# Altium footprint library AMP Footprints.PcbLib: 903 footprints (part 39 of 58)
Each footprint in its own frame and in the unit in brackets; x right, y up, seen from the top. Pads: shape width x height; smd on the part's side, far side on the other; paste and mask are expansions set on the pad; w line width, h text height; cw(c..) or ccw(c..) is an arc to the next point about the centre after c.
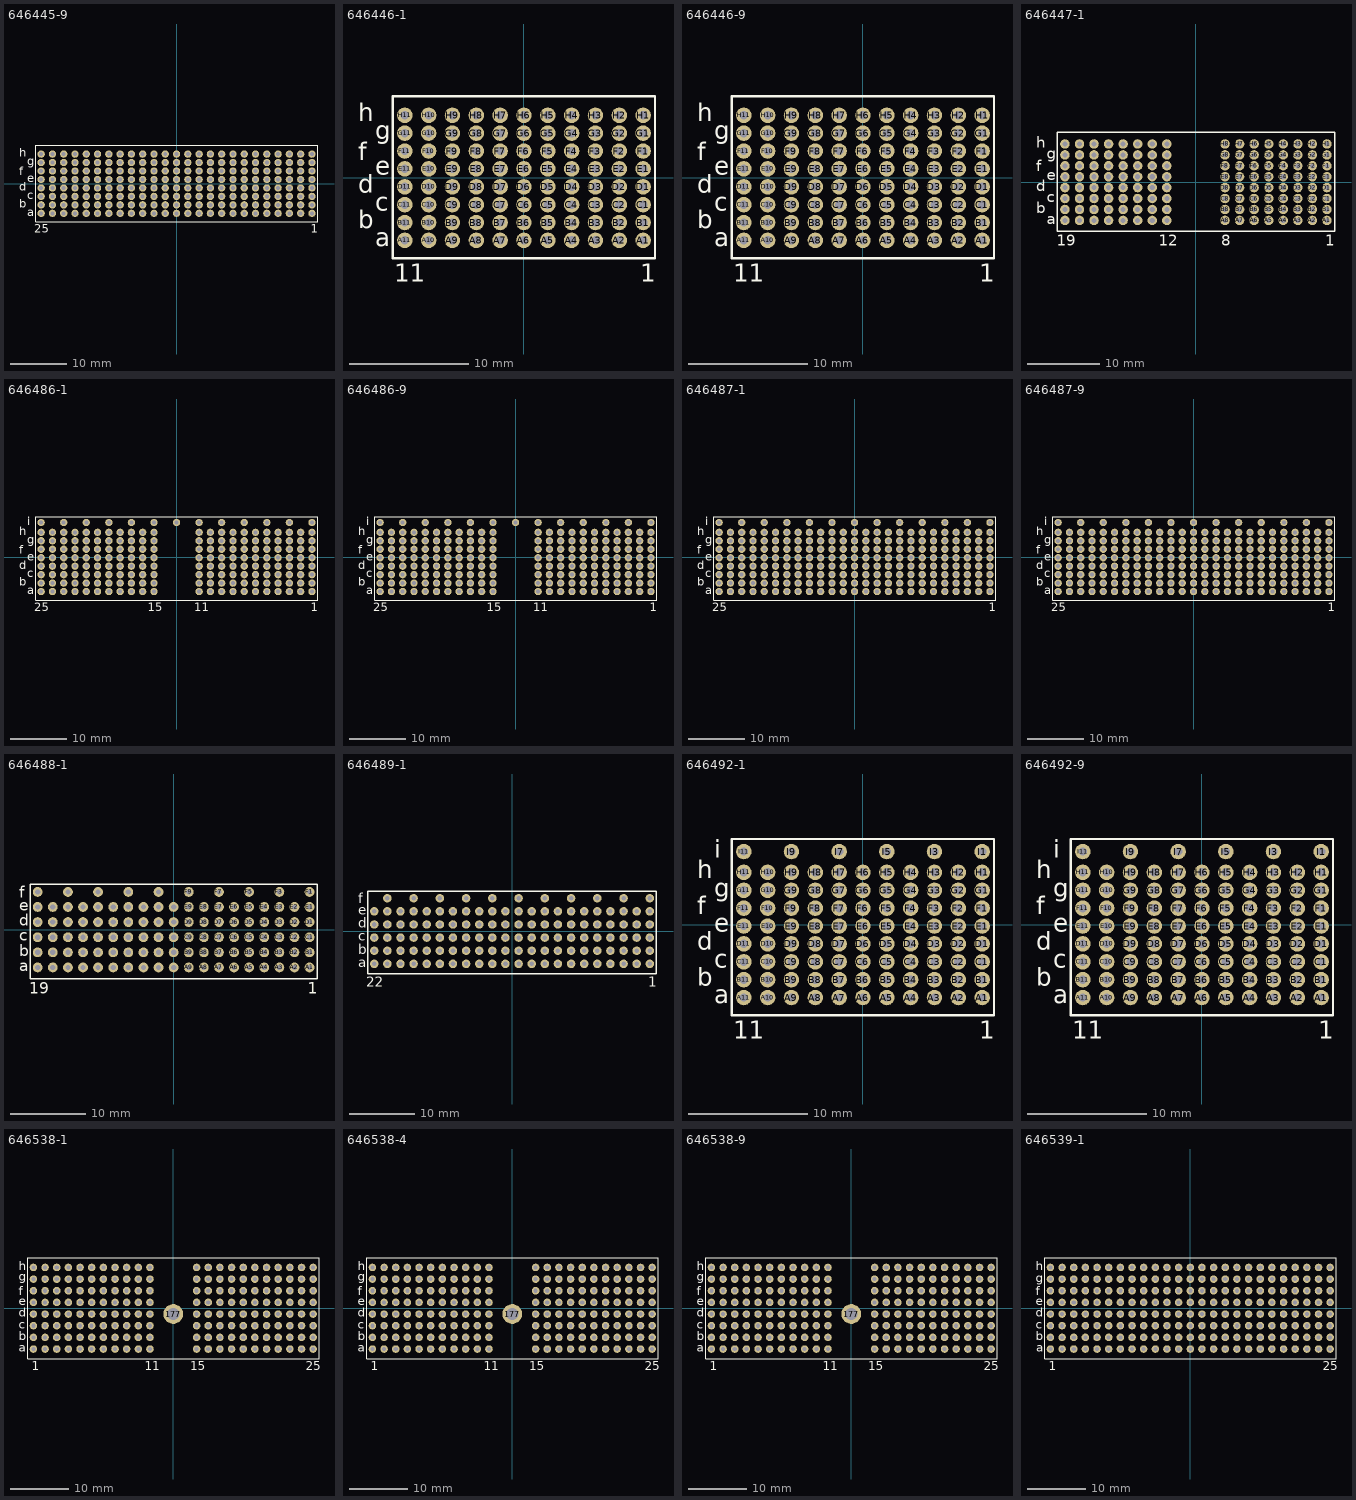
[diagram p38: the footprints below, top view; thin cyan lines are the x and y axes]

## 646445-9 [mm] "Connector; CompactPCI; 200 Position; Right Angle"
height 13.7
pads (200):
  round 1.3 hole 0.7: A1(24,-5.25) A2(22,-5.25) A3(20,-5.25) A4(18,-5.25) A5(16,-5.25) A6(14,-5.25) A7(12,-5.25) A8(10,-5.25) A9(8,-5.25) A10(6,-5.25) A11(4,-5.25) A12(2,-5.25) A13(0,-5.25) A14(-2,-5.25) A15(-4,-5.25) A16(-6,-5.25) A17(-8,-5.25) A18(-10,-5.25) A19(-12,-5.25) A20(-14,-5.25) A21(-16,-5.25) A22(-18,-5.25) A23(-20,-5.25) A24(-22,-5.25) A25(-24,-5.25) B1(24,-3.75) B2(22,-3.75) B3(20,-3.75) B4(18,-3.75) B5(16,-3.75) B6(14,-3.75) B7(12,-3.75) B8(10,-3.75) B9(8,-3.75) B10(6,-3.75) B11(4,-3.75) B12(2,-3.75) B13(0,-3.75) B14(-2,-3.75) B15(-4,-3.75) B16(-6,-3.75) B17(-8,-3.75) B18(-10,-3.75) B19(-12,-3.75) B20(-14,-3.75) B21(-16,-3.75) B22(-18,-3.75) B23(-20,-3.75) B24(-22,-3.75) B25(-24,-3.75) C1(24,-2.25) C2(22,-2.25) C3(20,-2.25) C4(18,-2.25) C5(16,-2.25) C6(14,-2.25) C7(12,-2.25) C8(10,-2.25) C9(8,-2.25) C10(6,-2.25) C11(4,-2.25) C12(2,-2.25) C13(0,-2.25) C14(-2,-2.25) C15(-4,-2.25) C16(-6,-2.25) C17(-8,-2.25) C18(-10,-2.25) C19(-12,-2.25) C20(-14,-2.25) C21(-16,-2.25) C22(-18,-2.25) C23(-20,-2.25) C24(-22,-2.25) C25(-24,-2.25) D1(24,-0.75) D2(22,-0.75) D3(20,-0.75) D4(18,-0.75) D5(16,-0.75) D6(14,-0.75) D7(12,-0.75) D8(10,-0.75) D9(8,-0.75) D10(6,-0.75) D11(4,-0.75) D12(2,-0.75) D13(0,-0.75) D14(-2,-0.75) D15(-4,-0.75) D16(-6,-0.75) D17(-8,-0.75) D18(-10,-0.75) D19(-12,-0.75) D20(-14,-0.75) D21(-16,-0.75) D22(-18,-0.75) D23(-20,-0.75) D24(-22,-0.75) D25(-24,-0.75) E1(24,0.75) E2(22,0.75) E3(20,0.75) E4(18,0.75) E5(16,0.75) E6(14,0.75) E7(12,0.75) E8(10,0.75) E9(8,0.75) E10(6,0.75) E11(4,0.75) E12(2,0.75) E13(0,0.75) E14(-2,0.75) E15(-4,0.75) E16(-6,0.75) E17(-8,0.75) E18(-10,0.75) E19(-12,0.75) E20(-14,0.75) E21(-16,0.75) E22(-18,0.75) E23(-20,0.75) E24(-22,0.75) E25(-24,0.75) F1(24,2.25) F2(22,2.25) F3(20,2.25) F4(18,2.25) F5(16,2.25) F6(14,2.25) F7(12,2.25) F8(10,2.25) F9(8,2.25) F10(6,2.25) F11(4,2.25) F12(2,2.25) F13(0,2.25) F14(-2,2.25) F15(-4,2.25) F16(-6,2.25) F17(-8,2.25) F18(-10,2.25) F19(-12,2.25) F20(-14,2.25) F21(-16,2.25) F22(-18,2.25) F23(-20,2.25) F24(-22,2.25) F25(-24,2.25) G1(24,3.75) G2(22,3.75) G3(20,3.75) G4(18,3.75) G5(16,3.75) G6(14,3.75) G7(12,3.75) G8(10,3.75) G9(8,3.75) G10(6,3.75) G11(4,3.75) G12(2,3.75) G13(0,3.75) G14(-2,3.75) G15(-4,3.75) G16(-6,3.75) G17(-8,3.75) G18(-10,3.75) G19(-12,3.75) G20(-14,3.75) G21(-16,3.75) G22(-18,3.75) G23(-20,3.75) G24(-22,3.75) G25(-24,3.75) H1(24,5.25) H2(22,5.25) H3(20,5.25) H4(18,5.25) H5(16,5.25) H6(14,5.25) H7(12,5.25) H8(10,5.25) H9(8,5.25) H10(6,5.25) H11(4,5.25) H12(2,5.25) H13(0,5.25) H14(-2,5.25) H15(-4,5.25) H16(-6,5.25) H17(-8,5.25) H18(-10,5.25) H19(-12,5.25) H20(-14,5.25) H21(-16,5.25) H22(-18,5.25) H23(-20,5.25) H24(-22,5.25) H25(-24,5.25)
Top Overlay:
  lines w0.2: -25,-6.75 -25,6.85 25,6.85 25,-6.75 -25,-6.75
  text "1" at 23.75,-8.725 h1.5
  text "25" at -25.25,-8.725 h1.5
  text "a" at -26.475,-5.75 h1.5
  text "b" at -27.925,-4.25 h1.5
  text "c" at -26.475,-2.75 h1.5
  text "e" at -26.475,0.25 h1.5
  text "g" at -26.475,3.238 h1.5
  text "d" at -27.925,-1.25 h1.5
  text "f" at -27.925,1.475 h1.5
  text "h" at -27.925,4.75 h1.5

## 646446-1 [mm] "Connector; CompactPCI; 88 Position; Right Angle"
height 14.2
pads (88):
  round 1.3 hole 0.7: A1(10,-5.25) A2(8,-5.25) A3(6,-5.25) A4(4,-5.25) A5(2,-5.25) A6(0,-5.25) A7(-2,-5.25) A8(-4,-5.25) A9(-6,-5.25) A10(-8,-5.25) A11(-10,-5.25) B1(10,-3.75) B2(8,-3.75) B3(6,-3.75) B4(4,-3.75) B5(2,-3.75) B6(0,-3.75) B7(-2,-3.75) B8(-4,-3.75) B9(-6,-3.75) B10(-8,-3.75) B11(-10,-3.75) C1(10,-2.25) C2(8,-2.25) C3(6,-2.25) C4(4,-2.25) C5(2,-2.25) C6(0,-2.25) C7(-2,-2.25) C8(-4,-2.25) C9(-6,-2.25) C10(-8,-2.25) C11(-10,-2.25) D1(10,-0.75) D2(8,-0.75) D3(6,-0.75) D4(4,-0.75) D5(2,-0.75) D6(0,-0.75) D7(-2,-0.75) D8(-4,-0.75) D9(-6,-0.75) D10(-8,-0.75) D11(-10,-0.75) E1(10,0.75) E2(8,0.75) E3(6,0.75) E4(4,0.75) E5(2,0.75) E6(0,0.75) E7(-2,0.75) E8(-4,0.75) E9(-6,0.75) E10(-8,0.75) E11(-10,0.75) F1(10,2.25) F2(8,2.25) F3(6,2.25) F4(4,2.25) F5(2,2.25) F6(0,2.25) F7(-2,2.25) F8(-4,2.25) F9(-6,2.25) F10(-8,2.25) F11(-10,2.25) G1(10,3.75) G2(8,3.75) G3(6,3.75) G4(4,3.75) G5(2,3.75) G6(0,3.75) G7(-2,3.75) G8(-4,3.75) G9(-6,3.75) G10(-8,3.75) G11(-10,3.75) H1(10,5.25) H2(8,5.25) H3(6,5.25) H4(4,5.25) H5(2,5.25) H6(0,5.25) H7(-2,5.25) H8(-4,5.25) H9(-6,5.25) H10(-8,5.25) H11(-10,5.25)
Top Overlay:
  lines w0.2: -11,-6.75 -11,6.85 11,6.85 11,-6.75 -11,-6.75
  text "1" at 9.75,-8.725 h1.5
  text "11" at -10.875,-8.725 h1.5
  text "a" at -12.475,-5.75 h1.5
  text "b" at -13.925,-4.25 h1.5
  text "c" at -12.475,-2.75 h1.5
  text "e" at -12.475,0.25 h1.5
  text "g" at -12.475,3.237 h1.5
  text "d" at -13.925,-1.25 h1.5
  text "f" at -13.925,1.475 h1.5
  text "h" at -13.925,4.75 h1.5

## 646446-9 [mm] "Connector; CompactPCI; 88 Position; Right Angle"
height 14.2
pads (88):
  round 1.3 hole 0.7: A1(10,-5.25) A2(8,-5.25) A3(6,-5.25) A4(4,-5.25) A5(2,-5.25) A6(0,-5.25) A7(-2,-5.25) A8(-4,-5.25) A9(-6,-5.25) A10(-8,-5.25) A11(-10,-5.25) B1(10,-3.75) B2(8,-3.75) B3(6,-3.75) B4(4,-3.75) B5(2,-3.75) B6(0,-3.75) B7(-2,-3.75) B8(-4,-3.75) B9(-6,-3.75) B10(-8,-3.75) B11(-10,-3.75) C1(10,-2.25) C2(8,-2.25) C3(6,-2.25) C4(4,-2.25) C5(2,-2.25) C6(0,-2.25) C7(-2,-2.25) C8(-4,-2.25) C9(-6,-2.25) C10(-8,-2.25) C11(-10,-2.25) D1(10,-0.75) D2(8,-0.75) D3(6,-0.75) D4(4,-0.75) D5(2,-0.75) D6(0,-0.75) D7(-2,-0.75) D8(-4,-0.75) D9(-6,-0.75) D10(-8,-0.75) D11(-10,-0.75) E1(10,0.75) E2(8,0.75) E3(6,0.75) E4(4,0.75) E5(2,0.75) E6(0,0.75) E7(-2,0.75) E8(-4,0.75) E9(-6,0.75) E10(-8,0.75) E11(-10,0.75) F1(10,2.25) F2(8,2.25) F3(6,2.25) F4(4,2.25) F5(2,2.25) F6(0,2.25) F7(-2,2.25) F8(-4,2.25) F9(-6,2.25) F10(-8,2.25) F11(-10,2.25) G1(10,3.75) G2(8,3.75) G3(6,3.75) G4(4,3.75) G5(2,3.75) G6(0,3.75) G7(-2,3.75) G8(-4,3.75) G9(-6,3.75) G10(-8,3.75) G11(-10,3.75) H1(10,5.25) H2(8,5.25) H3(6,5.25) H4(4,5.25) H5(2,5.25) H6(0,5.25) H7(-2,5.25) H8(-4,5.25) H9(-6,5.25) H10(-8,5.25) H11(-10,5.25)
Top Overlay:
  lines w0.2: -11,-6.75 -11,6.85 11,6.85 11,-6.75 -11,-6.75
  text "1" at 9.75,-8.725 h1.5
  text "11" at -10.875,-8.725 h1.5
  text "a" at -12.475,-5.75 h1.5
  text "b" at -13.925,-4.25 h1.5
  text "c" at -12.475,-2.75 h1.5
  text "e" at -12.475,0.25 h1.5
  text "g" at -12.475,3.237 h1.5
  text "d" at -13.925,-1.25 h1.5
  text "f" at -13.925,1.475 h1.5
  text "h" at -13.925,4.75 h1.5

## 646447-1 [mm] "Connector; CompactPCI; 128 Position; Right Angle"
height 14.2
pads (128):
  round 1.3 hole 0.7: A1(18,-5.25) A2(16,-5.25) A3(14,-5.25) A4(12,-5.25) A5(10,-5.25) A6(8,-5.25) A7(6,-5.25) A8(4,-5.25) A12(-4,-5.25) A13(-6,-5.25) A14(-8,-5.25) A15(-10,-5.25) A16(-12,-5.25) A17(-14,-5.25) A18(-16,-5.25) A19(-18,-5.25) B1(18,-3.75) B2(16,-3.75) B3(14,-3.75) B4(12,-3.75) B5(10,-3.75) B6(8,-3.75) B7(6,-3.75) B8(4,-3.75) B12(-4,-3.75) B13(-6,-3.75) B14(-8,-3.75) B15(-10,-3.75) B16(-12,-3.75) B17(-14,-3.75) B18(-16,-3.75) B19(-18,-3.75) C1(18,-2.25) C2(16,-2.25) C3(14,-2.25) C4(12,-2.25) C5(10,-2.25) C6(8,-2.25) C7(6,-2.25) C8(4,-2.25) C12(-4,-2.25) C13(-6,-2.25) C14(-8,-2.25) C15(-10,-2.25) C16(-12,-2.25) C17(-14,-2.25) C18(-16,-2.25) C19(-18,-2.25) D1(18,-0.75) D2(16,-0.75) D3(14,-0.75) D4(12,-0.75) D5(10,-0.75) D6(8,-0.75) D7(6,-0.75) D8(4,-0.75) D12(-4,-0.75) D13(-6,-0.75) D14(-8,-0.75) D15(-10,-0.75) D16(-12,-0.75) D17(-14,-0.75) D18(-16,-0.75) D19(-18,-0.75) E1(18,0.75) E2(16,0.75) E3(14,0.75) E4(12,0.75) E5(10,0.75) E6(8,0.75) E7(6,0.75) E8(4,0.75) E12(-4,0.75) E13(-6,0.75) E14(-8,0.75) E15(-10,0.75) E16(-12,0.75) E17(-14,0.75) E18(-16,0.75) E19(-18,0.75) F1(18,2.25) F2(16,2.25) F3(14,2.25) F4(12,2.25) F5(10,2.25) F6(8,2.25) F7(6,2.25) F8(4,2.25) F12(-4,2.25) F13(-6,2.25) F14(-8,2.25) F15(-10,2.25) F16(-12,2.25) F17(-14,2.25) F18(-16,2.25) F19(-18,2.25) G1(18,3.75) G2(16,3.75) G3(14,3.75) G4(12,3.75) G5(10,3.75) G6(8,3.75) G7(6,3.75) G8(4,3.75) G12(-4,3.75) G13(-6,3.75) G14(-8,3.75) G15(-10,3.75) G16(-12,3.75) G17(-14,3.75) G18(-16,3.75) G19(-18,3.75) H1(18,5.25) H2(16,5.25) H3(14,5.25) H4(12,5.25) H5(10,5.25) H6(8,5.25) H7(6,5.25) H8(4,5.25) H12(-4,5.25) H13(-6,5.25) H14(-8,5.25) H15(-10,5.25) H16(-12,5.25) H17(-14,5.25) H18(-16,5.25) H19(-18,5.25)
Top Overlay:
  lines w0.2: -19.05,-6.75 -19.05,6.85 19.05,6.85 19.05,-6.75 -19.05,-6.75
  text "19" at -19.125,-8.725 h1.5
  text "12" at -5.125,-8.725 h1.5
  text "8" at 3.5,-8.725 h1.5
  text "1" at 17.75,-8.725 h1.5
  text "a" at -20.525,-5.75 h1.5
  text "b" at -21.975,-4.25 h1.5
  text "c" at -20.525,-2.75 h1.5
  text "e" at -20.525,0.25 h1.5
  text "g" at -20.525,3.238 h1.5
  text "d" at -21.975,-1.25 h1.5
  text "f" at -21.975,1.475 h1.5
  text "h" at -21.975,4.75 h1.5

## 646486-1 [mm] "Connector; CompactPCI; 176 Position; Right Angle"
height 14.2
pads (189):
  round 1.3 hole 0.7: A1(24,-6.125) A2(22,-6.125) A3(20,-6.125) A4(18,-6.125) A5(16,-6.125) A6(14,-6.125) A7(12,-6.125) A8(10,-6.125) A9(8,-6.125) A10(6,-6.125) A11(4,-6.125) A15(-4,-6.125) A16(-6,-6.125) A17(-8,-6.125) A18(-10,-6.125) A19(-12,-6.125) A20(-14,-6.125) A21(-16,-6.125) A22(-18,-6.125) A23(-20,-6.125) A24(-22,-6.125) A25(-24,-6.125) B1(24,-4.625) B2(22,-4.625) B3(20,-4.625) B4(18,-4.625) B5(16,-4.625) B6(14,-4.625) B7(12,-4.625) B8(10,-4.625) B9(8,-4.625) B10(6,-4.625) B11(4,-4.625) B15(-4,-4.625) B16(-6,-4.625) B17(-8,-4.625) B18(-10,-4.625) B19(-12,-4.625) B20(-14,-4.625) B21(-16,-4.625) B22(-18,-4.625) B23(-20,-4.625) B24(-22,-4.625) B25(-24,-4.625) C1(24,-3.125) C2(22,-3.125) C3(20,-3.125) C4(18,-3.125) C5(16,-3.125) C6(14,-3.125) C7(12,-3.125) C8(10,-3.125) C9(8,-3.125) C10(6,-3.125) C11(4,-3.125) C15(-4,-3.125) C16(-6,-3.125) C17(-8,-3.125) C18(-10,-3.125) C19(-12,-3.125) C20(-14,-3.125) C21(-16,-3.125) C22(-18,-3.125) C23(-20,-3.125) C24(-22,-3.125) C25(-24,-3.125) D1(24,-1.625) D2(22,-1.625) D3(20,-1.625) D4(18,-1.625) D5(16,-1.625) D6(14,-1.625) D7(12,-1.625) D8(10,-1.625) D9(8,-1.625) D10(6,-1.625) D11(4,-1.625) D15(-4,-1.625) D16(-6,-1.625) D17(-8,-1.625) D18(-10,-1.625) D19(-12,-1.625) D20(-14,-1.625) D21(-16,-1.625) D22(-18,-1.625) D23(-20,-1.625) D24(-22,-1.625) D25(-24,-1.625) E1(24,-0.125) E2(22,-0.125) E3(20,-0.125) E4(18,-0.125) E5(16,-0.125) E6(14,-0.125) E7(12,-0.125) E8(10,-0.125) E9(8,-0.125) E10(6,-0.125) E11(4,-0.125) E15(-4,-0.125) E16(-6,-0.125) E17(-8,-0.125) E18(-10,-0.125) E19(-12,-0.125) E20(-14,-0.125) E21(-16,-0.125) E22(-18,-0.125) E23(-20,-0.125) E24(-22,-0.125) E25(-24,-0.125) F1(24,1.375) F2(22,1.375) F3(20,1.375) F4(18,1.375) F5(16,1.375) F6(14,1.375) F7(12,1.375) F8(10,1.375) F9(8,1.375) F10(6,1.375) F11(4,1.375) F15(-4,1.375) F16(-6,1.375) F17(-8,1.375) F18(-10,1.375) F19(-12,1.375) F20(-14,1.375) F21(-16,1.375) F22(-18,1.375) F23(-20,1.375) F24(-22,1.375) F25(-24,1.375) G1(24,2.875) G2(22,2.875) G3(20,2.875) G4(18,2.875) G5(16,2.875) G6(14,2.875) G7(12,2.875) G8(10,2.875) G9(8,2.875) G10(6,2.875) G11(4,2.875) G15(-4,2.875) G16(-6,2.875) G17(-8,2.875) G18(-10,2.875) G19(-12,2.875) G20(-14,2.875) G21(-16,2.875) G22(-18,2.875) G23(-20,2.875) G24(-22,2.875) G25(-24,2.875) H1(24,4.375) H2(22,4.375) H3(20,4.375) H4(18,4.375) H5(16,4.375) H6(14,4.375) H7(12,4.375) H8(10,4.375) H9(8,4.375) H10(6,4.375) H11(4,4.375) H15(-4,4.375) H16(-6,4.375) H17(-8,4.375) H18(-10,4.375) H19(-12,4.375) H20(-14,4.375) H21(-16,4.375) H22(-18,4.375) H23(-20,4.375) H24(-22,4.375) H25(-24,4.375) I1(24,6.125) I3(20,6.125) I5(16,6.125) I7(12,6.125) I9(8,6.125) I11(4,6.125) I13(0,6.125) I15(-4,6.125) I17(-8,6.125) I19(-12,6.125) I21(-16,6.125) I23(-20,6.125) I25(-24,6.125)
Top Overlay:
  lines w0.2: -25,-7.625 -25,7.105 25,7.105 25,-7.625 -25,-7.625
  text "i" at -26.475,5.625 h1.5
  text "a" at -26.475,-6.625 h1.5
  text "b" at -27.925,-5.125 h1.5
  text "c" at -26.475,-3.625 h1.5
  text "e" at -26.475,-0.625 h1.5
  text "g" at -26.475,2.363 h1.5
  text "d" at -27.925,-2.125 h1.5
  text "f" at -27.925,0.6 h1.5
  text "h" at -27.925,3.875 h1.5
  text "11" at 3.125,-9.6 h1.5
  text "1" at 23.75,-9.6 h1.5
  text "15" at -5.125,-9.6 h1.5
  text "25" at -25.25,-9.6 h1.5

## 646486-9 [mm] "Connector; CompactPCI; 176 Position; Right Angle"
height 14.2
pads (189):
  round 1.3 hole 0.7: A1(24,-6.125) A2(22,-6.125) A3(20,-6.125) A4(18,-6.125) A5(16,-6.125) A6(14,-6.125) A7(12,-6.125) A8(10,-6.125) A9(8,-6.125) A10(6,-6.125) A11(4,-6.125) A15(-4,-6.125) A16(-6,-6.125) A17(-8,-6.125) A18(-10,-6.125) A19(-12,-6.125) A20(-14,-6.125) A21(-16,-6.125) A22(-18,-6.125) A23(-20,-6.125) A24(-22,-6.125) A25(-24,-6.125) B1(24,-4.625) B2(22,-4.625) B3(20,-4.625) B4(18,-4.625) B5(16,-4.625) B6(14,-4.625) B7(12,-4.625) B8(10,-4.625) B9(8,-4.625) B10(6,-4.625) B11(4,-4.625) B15(-4,-4.625) B16(-6,-4.625) B17(-8,-4.625) B18(-10,-4.625) B19(-12,-4.625) B20(-14,-4.625) B21(-16,-4.625) B22(-18,-4.625) B23(-20,-4.625) B24(-22,-4.625) B25(-24,-4.625) C1(24,-3.125) C2(22,-3.125) C3(20,-3.125) C4(18,-3.125) C5(16,-3.125) C6(14,-3.125) C7(12,-3.125) C8(10,-3.125) C9(8,-3.125) C10(6,-3.125) C11(4,-3.125) C15(-4,-3.125) C16(-6,-3.125) C17(-8,-3.125) C18(-10,-3.125) C19(-12,-3.125) C20(-14,-3.125) C21(-16,-3.125) C22(-18,-3.125) C23(-20,-3.125) C24(-22,-3.125) C25(-24,-3.125) D1(24,-1.625) D2(22,-1.625) D3(20,-1.625) D4(18,-1.625) D5(16,-1.625) D6(14,-1.625) D7(12,-1.625) D8(10,-1.625) D9(8,-1.625) D10(6,-1.625) D11(4,-1.625) D15(-4,-1.625) D16(-6,-1.625) D17(-8,-1.625) D18(-10,-1.625) D19(-12,-1.625) D20(-14,-1.625) D21(-16,-1.625) D22(-18,-1.625) D23(-20,-1.625) D24(-22,-1.625) D25(-24,-1.625) E1(24,-0.125) E2(22,-0.125) E3(20,-0.125) E4(18,-0.125) E5(16,-0.125) E6(14,-0.125) E7(12,-0.125) E8(10,-0.125) E9(8,-0.125) E10(6,-0.125) E11(4,-0.125) E15(-4,-0.125) E16(-6,-0.125) E17(-8,-0.125) E18(-10,-0.125) E19(-12,-0.125) E20(-14,-0.125) E21(-16,-0.125) E22(-18,-0.125) E23(-20,-0.125) E24(-22,-0.125) E25(-24,-0.125) F1(24,1.375) F2(22,1.375) F3(20,1.375) F4(18,1.375) F5(16,1.375) F6(14,1.375) F7(12,1.375) F8(10,1.375) F9(8,1.375) F10(6,1.375) F11(4,1.375) F15(-4,1.375) F16(-6,1.375) F17(-8,1.375) F18(-10,1.375) F19(-12,1.375) F20(-14,1.375) F21(-16,1.375) F22(-18,1.375) F23(-20,1.375) F24(-22,1.375) F25(-24,1.375) G1(24,2.875) G2(22,2.875) G3(20,2.875) G4(18,2.875) G5(16,2.875) G6(14,2.875) G7(12,2.875) G8(10,2.875) G9(8,2.875) G10(6,2.875) G11(4,2.875) G15(-4,2.875) G16(-6,2.875) G17(-8,2.875) G18(-10,2.875) G19(-12,2.875) G20(-14,2.875) G21(-16,2.875) G22(-18,2.875) G23(-20,2.875) G24(-22,2.875) G25(-24,2.875) H1(24,4.375) H2(22,4.375) H3(20,4.375) H4(18,4.375) H5(16,4.375) H6(14,4.375) H7(12,4.375) H8(10,4.375) H9(8,4.375) H10(6,4.375) H11(4,4.375) H15(-4,4.375) H16(-6,4.375) H17(-8,4.375) H18(-10,4.375) H19(-12,4.375) H20(-14,4.375) H21(-16,4.375) H22(-18,4.375) H23(-20,4.375) H24(-22,4.375) H25(-24,4.375) I1(24,6.125) I3(20,6.125) I5(16,6.125) I7(12,6.125) I9(8,6.125) I11(4,6.125) I13(0,6.125) I15(-4,6.125) I17(-8,6.125) I19(-12,6.125) I21(-16,6.125) I23(-20,6.125) I25(-24,6.125)
Top Overlay:
  lines w0.2: -25,-7.625 -25,7.105 25,7.105 25,-7.625 -25,-7.625
  text "i" at -26.475,5.625 h1.5
  text "a" at -26.475,-6.625 h1.5
  text "b" at -27.925,-5.125 h1.5
  text "c" at -26.475,-3.625 h1.5
  text "e" at -26.475,-0.625 h1.5
  text "g" at -26.475,2.363 h1.5
  text "d" at -27.925,-2.125 h1.5
  text "f" at -27.925,0.6 h1.5
  text "h" at -27.925,3.875 h1.5
  text "11" at 3.125,-9.6 h1.5
  text "1" at 23.75,-9.6 h1.5
  text "15" at -5.125,-9.6 h1.5
  text "25" at -25.25,-9.6 h1.5

## 646487-1 [mm] "Connector; CompactPCI; 200 Position; Right Angle"
height 13.7
pads (213):
  round 1.3 hole 0.7: A1(24,-6.125) A2(22,-6.125) A3(20,-6.125) A4(18,-6.125) A5(16,-6.125) A6(14,-6.125) A7(12,-6.125) A8(10,-6.125) A9(8,-6.125) A10(6,-6.125) A11(4,-6.125) A12(2,-6.125) A13(0,-6.125) A14(-2,-6.125) A15(-4,-6.125) A16(-6,-6.125) A17(-8,-6.125) A18(-10,-6.125) A19(-12,-6.125) A20(-14,-6.125) A21(-16,-6.125) A22(-18,-6.125) A23(-20,-6.125) A24(-22,-6.125) A25(-24,-6.125) B1(24,-4.625) B2(22,-4.625) B3(20,-4.625) B4(18,-4.625) B5(16,-4.625) B6(14,-4.625) B7(12,-4.625) B8(10,-4.625) B9(8,-4.625) B10(6,-4.625) B11(4,-4.625) B12(2,-4.625) B13(0,-4.625) B14(-2,-4.625) B15(-4,-4.625) B16(-6,-4.625) B17(-8,-4.625) B18(-10,-4.625) B19(-12,-4.625) B20(-14,-4.625) B21(-16,-4.625) B22(-18,-4.625) B23(-20,-4.625) B24(-22,-4.625) B25(-24,-4.625) C1(24,-3.125) C2(22,-3.125) C3(20,-3.125) C4(18,-3.125) C5(16,-3.125) C6(14,-3.125) C7(12,-3.125) C8(10,-3.125) C9(8,-3.125) C10(6,-3.125) C11(4,-3.125) C12(2,-3.125) C13(0,-3.125) C14(-2,-3.125) C15(-4,-3.125) C16(-6,-3.125) C17(-8,-3.125) C18(-10,-3.125) C19(-12,-3.125) C20(-14,-3.125) C21(-16,-3.125) C22(-18,-3.125) C23(-20,-3.125) C24(-22,-3.125) C25(-24,-3.125) D1(24,-1.625) D2(22,-1.625) D3(20,-1.625) D4(18,-1.625) D5(16,-1.625) D6(14,-1.625) D7(12,-1.625) D8(10,-1.625) D9(8,-1.625) D10(6,-1.625) D11(4,-1.625) D12(2,-1.625) D13(0,-1.625) D14(-2,-1.625) D15(-4,-1.625) D16(-6,-1.625) D17(-8,-1.625) D18(-10,-1.625) D19(-12,-1.625) D20(-14,-1.625) D21(-16,-1.625) D22(-18,-1.625) D23(-20,-1.625) D24(-22,-1.625) D25(-24,-1.625) E1(24,-0.125) E2(22,-0.125) E3(20,-0.125) E4(18,-0.125) E5(16,-0.125) E6(14,-0.125) E7(12,-0.125) E8(10,-0.125) E9(8,-0.125) E10(6,-0.125) E11(4,-0.125) E12(2,-0.125) E13(0,-0.125) E14(-2,-0.125) E15(-4,-0.125) E16(-6,-0.125) E17(-8,-0.125) E18(-10,-0.125) E19(-12,-0.125) E20(-14,-0.125) E21(-16,-0.125) E22(-18,-0.125) E23(-20,-0.125) E24(-22,-0.125) E25(-24,-0.125) F1(24,1.375) F2(22,1.375) F3(20,1.375) F4(18,1.375) F5(16,1.375) F6(14,1.375) F7(12,1.375) F8(10,1.375) F9(8,1.375) F10(6,1.375) F11(4,1.375) F12(2,1.375) F13(0,1.375) F14(-2,1.375) F15(-4,1.375) F16(-6,1.375) F17(-8,1.375) F18(-10,1.375) F19(-12,1.375) F20(-14,1.375) F21(-16,1.375) F22(-18,1.375) F23(-20,1.375) F24(-22,1.375) F25(-24,1.375) G1(24,2.875) G2(22,2.875) G3(20,2.875) G4(18,2.875) G5(16,2.875) G6(14,2.875) G7(12,2.875) G8(10,2.875) G9(8,2.875) G10(6,2.875) G11(4,2.875) G12(2,2.875) G13(0,2.875) G14(-2,2.875) G15(-4,2.875) G16(-6,2.875) G17(-8,2.875) G18(-10,2.875) G19(-12,2.875) G20(-14,2.875) G21(-16,2.875) G22(-18,2.875) G23(-20,2.875) G24(-22,2.875) G25(-24,2.875) H1(24,4.375) H2(22,4.375) H3(20,4.375) H4(18,4.375) H5(16,4.375) H6(14,4.375) H7(12,4.375) H8(10,4.375) H9(8,4.375) H10(6,4.375) H11(4,4.375) H12(2,4.375) H13(0,4.375) H14(-2,4.375) H15(-4,4.375) H16(-6,4.375) H17(-8,4.375) H18(-10,4.375) H19(-12,4.375) H20(-14,4.375) H21(-16,4.375) H22(-18,4.375) H23(-20,4.375) H24(-22,4.375) H25(-24,4.375) I1(24,6.125) I3(20,6.125) I5(16,6.125) I7(12,6.125) I9(8,6.125) I11(4,6.125) I13(0,6.125) I15(-4,6.125) I17(-8,6.125) I19(-12,6.125) I21(-16,6.125) I23(-20,6.125) I25(-24,6.125)
Top Overlay:
  lines w0.2: -25,-7.625 25,-7.625 25,7.1 -25,7.1 -25,-7.625
  text "g" at -26.475,2.363 h1.5
  text "i" at -26.475,5.625 h1.5
  text "h" at -27.925,3.875 h1.5
  text "f" at -27.925,0.6 h1.5
  text "d" at -27.925,-2.125 h1.5
  text "e" at -26.475,-0.625 h1.5
  text "c" at -26.475,-3.625 h1.5
  text "b" at -27.925,-5.125 h1.5
  text "a" at -26.475,-6.625 h1.5
  text "25" at -25.25,-9.6 h1.5
  text "1" at 23.75,-9.6 h1.5

## 646487-9 [mm] "Connector; CompactPCI; 200 Position; Right Angle"
height 13.7
pads (213):
  round 1.3 hole 0.7: A1(24,-6.125) A2(22,-6.125) A3(20,-6.125) A4(18,-6.125) A5(16,-6.125) A6(14,-6.125) A7(12,-6.125) A8(10,-6.125) A9(8,-6.125) A10(6,-6.125) A11(4,-6.125) A12(2,-6.125) A13(0,-6.125) A14(-2,-6.125) A15(-4,-6.125) A16(-6,-6.125) A17(-8,-6.125) A18(-10,-6.125) A19(-12,-6.125) A20(-14,-6.125) A21(-16,-6.125) A22(-18,-6.125) A23(-20,-6.125) A24(-22,-6.125) A25(-24,-6.125) B1(24,-4.625) B2(22,-4.625) B3(20,-4.625) B4(18,-4.625) B5(16,-4.625) B6(14,-4.625) B7(12,-4.625) B8(10,-4.625) B9(8,-4.625) B10(6,-4.625) B11(4,-4.625) B12(2,-4.625) B13(0,-4.625) B14(-2,-4.625) B15(-4,-4.625) B16(-6,-4.625) B17(-8,-4.625) B18(-10,-4.625) B19(-12,-4.625) B20(-14,-4.625) B21(-16,-4.625) B22(-18,-4.625) B23(-20,-4.625) B24(-22,-4.625) B25(-24,-4.625) C1(24,-3.125) C2(22,-3.125) C3(20,-3.125) C4(18,-3.125) C5(16,-3.125) C6(14,-3.125) C7(12,-3.125) C8(10,-3.125) C9(8,-3.125) C10(6,-3.125) C11(4,-3.125) C12(2,-3.125) C13(0,-3.125) C14(-2,-3.125) C15(-4,-3.125) C16(-6,-3.125) C17(-8,-3.125) C18(-10,-3.125) C19(-12,-3.125) C20(-14,-3.125) C21(-16,-3.125) C22(-18,-3.125) C23(-20,-3.125) C24(-22,-3.125) C25(-24,-3.125) D1(24,-1.625) D2(22,-1.625) D3(20,-1.625) D4(18,-1.625) D5(16,-1.625) D6(14,-1.625) D7(12,-1.625) D8(10,-1.625) D9(8,-1.625) D10(6,-1.625) D11(4,-1.625) D12(2,-1.625) D13(0,-1.625) D14(-2,-1.625) D15(-4,-1.625) D16(-6,-1.625) D17(-8,-1.625) D18(-10,-1.625) D19(-12,-1.625) D20(-14,-1.625) D21(-16,-1.625) D22(-18,-1.625) D23(-20,-1.625) D24(-22,-1.625) D25(-24,-1.625) E1(24,-0.125) E2(22,-0.125) E3(20,-0.125) E4(18,-0.125) E5(16,-0.125) E6(14,-0.125) E7(12,-0.125) E8(10,-0.125) E9(8,-0.125) E10(6,-0.125) E11(4,-0.125) E12(2,-0.125) E13(0,-0.125) E14(-2,-0.125) E15(-4,-0.125) E16(-6,-0.125) E17(-8,-0.125) E18(-10,-0.125) E19(-12,-0.125) E20(-14,-0.125) E21(-16,-0.125) E22(-18,-0.125) E23(-20,-0.125) E24(-22,-0.125) E25(-24,-0.125) F1(24,1.375) F2(22,1.375) F3(20,1.375) F4(18,1.375) F5(16,1.375) F6(14,1.375) F7(12,1.375) F8(10,1.375) F9(8,1.375) F10(6,1.375) F11(4,1.375) F12(2,1.375) F13(0,1.375) F14(-2,1.375) F15(-4,1.375) F16(-6,1.375) F17(-8,1.375) F18(-10,1.375) F19(-12,1.375) F20(-14,1.375) F21(-16,1.375) F22(-18,1.375) F23(-20,1.375) F24(-22,1.375) F25(-24,1.375) G1(24,2.875) G2(22,2.875) G3(20,2.875) G4(18,2.875) G5(16,2.875) G6(14,2.875) G7(12,2.875) G8(10,2.875) G9(8,2.875) G10(6,2.875) G11(4,2.875) G12(2,2.875) G13(0,2.875) G14(-2,2.875) G15(-4,2.875) G16(-6,2.875) G17(-8,2.875) G18(-10,2.875) G19(-12,2.875) G20(-14,2.875) G21(-16,2.875) G22(-18,2.875) G23(-20,2.875) G24(-22,2.875) G25(-24,2.875) H1(24,4.375) H2(22,4.375) H3(20,4.375) H4(18,4.375) H5(16,4.375) H6(14,4.375) H7(12,4.375) H8(10,4.375) H9(8,4.375) H10(6,4.375) H11(4,4.375) H12(2,4.375) H13(0,4.375) H14(-2,4.375) H15(-4,4.375) H16(-6,4.375) H17(-8,4.375) H18(-10,4.375) H19(-12,4.375) H20(-14,4.375) H21(-16,4.375) H22(-18,4.375) H23(-20,4.375) H24(-22,4.375) H25(-24,4.375) I1(24,6.125) I3(20,6.125) I5(16,6.125) I7(12,6.125) I9(8,6.125) I11(4,6.125) I13(0,6.125) I15(-4,6.125) I17(-8,6.125) I19(-12,6.125) I21(-16,6.125) I23(-20,6.125) I25(-24,6.125)
Top Overlay:
  lines w0.2: -25,-7.625 25,-7.625 25,7.1 -25,7.1 -25,-7.625
  text "g" at -26.475,2.363 h1.5
  text "i" at -26.475,5.625 h1.5
  text "h" at -27.925,3.875 h1.5
  text "f" at -27.925,0.6 h1.5
  text "d" at -27.925,-2.125 h1.5
  text "e" at -26.475,-0.625 h1.5
  text "c" at -26.475,-3.625 h1.5
  text "b" at -27.925,-5.125 h1.5
  text "a" at -26.475,-6.625 h1.5
  text "25" at -25.25,-9.6 h1.5
  text "1" at 23.75,-9.6 h1.5

## 646488-1 [mm] "Connector; CompactPCI; 95 Position; Right Angle"
height 9.12
pads (105):
  round 1.3 hole 0.7: A1(18,-5) A2(16,-5) A3(14,-5) A4(12,-5) A5(10,-5) A6(8,-5) A7(6,-5) A8(4,-5) A9(2,-5) A10(0,-5) A11(-2,-5) A12(-4,-5) A13(-6,-5) A14(-8,-5) A15(-10,-5) A16(-12,-5) A17(-14,-5) A18(-16,-5) A19(-18,-5) B1(18,-3) B2(16,-3) B3(14,-3) B4(12,-3) B5(10,-3) B6(8,-3) B7(6,-3) B8(4,-3) B9(2,-3) B10(0,-3) B11(-2,-3) B12(-4,-3) B13(-6,-3) B14(-8,-3) B15(-10,-3) B16(-12,-3) B17(-14,-3) B18(-16,-3) B19(-18,-3) C1(18,-1) C2(16,-1) C3(14,-1) C4(12,-1) C5(10,-1) C6(8,-1) C7(6,-1) C8(4,-1) C9(2,-1) C10(0,-1) C11(-2,-1) C12(-4,-1) C13(-6,-1) C14(-8,-1) C15(-10,-1) C16(-12,-1) C17(-14,-1) C18(-16,-1) C19(-18,-1) D1(18,1) D2(16,1) D3(14,1) D4(12,1) D5(10,1) D6(8,1) D7(6,1) D8(4,1) D9(2,1) D10(0,1) D11(-2,1) D12(-4,1) D13(-6,1) D14(-8,1) D15(-10,1) D16(-12,1) D17(-14,1) D18(-16,1) D19(-18,1) E1(18,3) E2(16,3) E3(14,3) E4(12,3) E5(10,3) E6(8,3) E7(6,3) E8(4,3) E9(2,3) E10(0,3) E11(-2,3) E12(-4,3) E13(-6,3) E14(-8,3) E15(-10,3) E16(-12,3) E17(-14,3) E18(-16,3) E19(-18,3) F1(18,5) F3(14,5) F5(10,5) F7(6,5) F9(2,5) F11(-2,5) F13(-6,5) F15(-10,5) F17(-14,5) F19(-18,5)
Top Overlay:
  lines w0.2: -19,-6.5 19,-6.5 19,6 -19,6 -19,-6.5
  text "f" at -20.475,4.225 h1.5
  text "e" at -20.475,2.5 h1.5
  text "d" at -20.475,0.5 h1.5
  text "c" at -20.475,-1.5 h1.5
  text "b" at -20.475,-3.5 h1.5
  text "a" at -20.475,-5.5 h1.5
  text "19" at -19.125,-8.475 h1.5
  text "1" at 17.75,-8.475 h1.5

## 646489-1 [mm] "Connector; CompactPCI; 110 Position; Right Angle"
height 9.12
pads (121):
  round 1.3 hole 0.7: A1(21,-5) A2(19,-5) A3(17,-5) A4(15,-5) A5(13,-5) A6(11,-5) A7(9,-5) A8(7,-5) A9(5,-5) A10(3,-5) A11(1,-5) A12(-1,-5) A13(-3,-5) A14(-5,-5) A15(-7,-5) A16(-9,-5) A17(-11,-5) A18(-13,-5) A19(-15,-5) A20(-17,-5) A21(-19,-5) A22(-21,-5) B1(21,-3) B2(19,-3) B3(17,-3) B4(15,-3) B5(13,-3) B6(11,-3) B7(9,-3) B8(7,-3) B9(5,-3) B10(3,-3) B11(1,-3) B12(-1,-3) B13(-3,-3) B14(-5,-3) B15(-7,-3) B16(-9,-3) B17(-11,-3) B18(-13,-3) B19(-15,-3) B20(-17,-3) B21(-19,-3) B22(-21,-3) C1(21,-1) C2(19,-1) C3(17,-1) C4(15,-1) C5(13,-1) C6(11,-1) C7(9,-1) C8(7,-1) C9(5,-1) C10(3,-1) C11(1,-1) C12(-1,-1) C13(-3,-1) C14(-5,-1) C15(-7,-1) C16(-9,-1) C17(-11,-1) C18(-13,-1) C19(-15,-1) C20(-17,-1) C21(-19,-1) C22(-21,-1) D1(21,1) D2(19,1) D3(17,1) D4(15,1) D5(13,1) D6(11,1) D7(9,1) D8(7,1) D9(5,1) D10(3,1) D11(1,1) D12(-1,1) D13(-3,1) D14(-5,1) D15(-7,1) D16(-9,1) D17(-11,1) D18(-13,1) D19(-15,1) D20(-17,1) D21(-19,1) D22(-21,1) E1(21,3) E2(19,3) E3(17,3) E4(15,3) E5(13,3) E6(11,3) E7(9,3) E8(7,3) E9(5,3) E10(3,3) E11(1,3) E12(-1,3) E13(-3,3) E14(-5,3) E15(-7,3) E16(-9,3) E17(-11,3) E18(-13,3) E19(-15,3) E20(-17,3) E21(-19,3) E22(-21,3) F1(21,5) F3(17,5) F5(13,5) F7(9,5) F9(5,5) F11(1,5) F13(-3,5) F15(-7,5) F17(-11,5) F19(-15,5) F21(-19,5)
Top Overlay:
  lines w0.2: -22,-6.5 -22,6.05 22,6.05 22,-6.5 -22,-6.5
  text "f" at -23.475,4.225 h1.5
  text "a" at -23.475,-5.5 h1.5
  text "b" at -23.475,-3.5 h1.5
  text "c" at -23.475,-1.5 h1.5
  text "d" at -23.475,0.5 h1.5
  text "e" at -23.475,2.5 h1.5
  text "22" at -22.25,-8.475 h1.5
  text "1" at 20.75,-8.475 h1.5

## 646492-1 [mm] "Connector; CompactPCI; 88 Position; Right Angle"
height 14.2
pads (94):
  round 1.3 hole 0.7: A1(10,-6.125) A2(8,-6.125) A3(6,-6.125) A4(4,-6.125) A5(2,-6.125) A6(0,-6.125) A7(-2,-6.125) A8(-4,-6.125) A9(-6,-6.125) A10(-8,-6.125) A11(-10,-6.125) B1(10,-4.625) B2(8,-4.625) B3(6,-4.625) B4(4,-4.625) B5(2,-4.625) B6(0,-4.625) B7(-2,-4.625) B8(-4,-4.625) B9(-6,-4.625) B10(-8,-4.625) B11(-10,-4.625) C1(10,-3.125) C2(8,-3.125) C3(6,-3.125) C4(4,-3.125) C5(2,-3.125) C6(0,-3.125) C7(-2,-3.125) C8(-4,-3.125) C9(-6,-3.125) C10(-8,-3.125) C11(-10,-3.125) D1(10,-1.625) D2(8,-1.625) D3(6,-1.625) D4(4,-1.625) D5(2,-1.625) D6(0,-1.625) D7(-2,-1.625) D8(-4,-1.625) D9(-6,-1.625) D10(-8,-1.625) D11(-10,-1.625) E1(10,-0.125) E2(8,-0.125) E3(6,-0.125) E4(4,-0.125) E5(2,-0.125) E6(0,-0.125) E7(-2,-0.125) E8(-4,-0.125) E9(-6,-0.125) E10(-8,-0.125) E11(-10,-0.125) F1(10,1.375) F2(8,1.375) F3(6,1.375) F4(4,1.375) F5(2,1.375) F6(0,1.375) F7(-2,1.375) F8(-4,1.375) F9(-6,1.375) F10(-8,1.375) F11(-10,1.375) G1(10,2.875) G2(8,2.875) G3(6,2.875) G4(4,2.875) G5(2,2.875) G6(0,2.875) G7(-2,2.875) G8(-4,2.875) G9(-6,2.875) G10(-8,2.875) G11(-10,2.875) H1(10,4.375) H2(8,4.375) H3(6,4.375) H4(4,4.375) H5(2,4.375) H6(0,4.375) H7(-2,4.375) H8(-4,4.375) H9(-6,4.375) H10(-8,4.375) H11(-10,4.375) I1(10,6.125) I3(6,6.125) I5(2,6.125) I7(-2,6.125) I9(-6,6.125) I11(-10,6.125)
Top Overlay:
  lines w0.2: -11,-7.625 11,-7.625 11,7.175 -11,7.175 -11,-7.625
  text "i" at -12.475,5.625 h1.5
  text "h" at -13.925,3.875 h1.5
  text "f" at -13.925,0.85 h1.5
  text "d" at -13.925,-2.125 h1.5
  text "g" at -12.475,2.35 h1.5
  text "e" at -12.475,-0.625 h1.5
  text "c" at -12.475,-3.625 h1.5
  text "b" at -13.925,-5.125 h1.5
  text "a" at -12.475,-6.625 h1.5
  text "11" at -10.875,-9.6 h1.5
  text "1" at 9.75,-9.6 h1.5

## 646492-9 [mm] "Connector; CompactPCI; 88 Position; Right Angle"
height 14.2
pads (94):
  round 1.3 hole 0.7: A1(10,-6.125) A2(8,-6.125) A3(6,-6.125) A4(4,-6.125) A5(2,-6.125) A6(0,-6.125) A7(-2,-6.125) A8(-4,-6.125) A9(-6,-6.125) A10(-8,-6.125) A11(-10,-6.125) B1(10,-4.625) B2(8,-4.625) B3(6,-4.625) B4(4,-4.625) B5(2,-4.625) B6(0,-4.625) B7(-2,-4.625) B8(-4,-4.625) B9(-6,-4.625) B10(-8,-4.625) B11(-10,-4.625) C1(10,-3.125) C2(8,-3.125) C3(6,-3.125) C4(4,-3.125) C5(2,-3.125) C6(0,-3.125) C7(-2,-3.125) C8(-4,-3.125) C9(-6,-3.125) C10(-8,-3.125) C11(-10,-3.125) D1(10,-1.625) D2(8,-1.625) D3(6,-1.625) D4(4,-1.625) D5(2,-1.625) D6(0,-1.625) D7(-2,-1.625) D8(-4,-1.625) D9(-6,-1.625) D10(-8,-1.625) D11(-10,-1.625) E1(10,-0.125) E2(8,-0.125) E3(6,-0.125) E4(4,-0.125) E5(2,-0.125) E6(0,-0.125) E7(-2,-0.125) E8(-4,-0.125) E9(-6,-0.125) E10(-8,-0.125) E11(-10,-0.125) F1(10,1.375) F2(8,1.375) F3(6,1.375) F4(4,1.375) F5(2,1.375) F6(0,1.375) F7(-2,1.375) F8(-4,1.375) F9(-6,1.375) F10(-8,1.375) F11(-10,1.375) G1(10,2.875) G2(8,2.875) G3(6,2.875) G4(4,2.875) G5(2,2.875) G6(0,2.875) G7(-2,2.875) G8(-4,2.875) G9(-6,2.875) G10(-8,2.875) G11(-10,2.875) H1(10,4.375) H2(8,4.375) H3(6,4.375) H4(4,4.375) H5(2,4.375) H6(0,4.375) H7(-2,4.375) H8(-4,4.375) H9(-6,4.375) H10(-8,4.375) H11(-10,4.375) I1(10,6.125) I3(6,6.125) I5(2,6.125) I7(-2,6.125) I9(-6,6.125) I11(-10,6.125)
Top Overlay:
  lines w0.2: -11,-7.625 11,-7.625 11,7.175 -11,7.175 -11,-7.625
  text "i" at -12.475,5.625 h1.5
  text "h" at -13.925,3.875 h1.5
  text "f" at -13.925,0.85 h1.5
  text "d" at -13.925,-2.125 h1.5
  text "g" at -12.475,2.35 h1.5
  text "e" at -12.475,-0.625 h1.5
  text "c" at -12.475,-3.625 h1.5
  text "b" at -13.925,-5.125 h1.5
  text "a" at -12.475,-6.625 h1.5
  text "11" at -10.875,-9.6 h1.5
  text "1" at 9.75,-9.6 h1.5

## 646538-1 [mm] "Connector; CompactPCI; 176 Position; Vertical"
height 18.15
pads (177):
  round 3.4 hole 2.1: 177(0,-1)
  round 1.3 hole 0.7: A1(-24,-7) A2(-22,-7) A3(-20,-7) A4(-18,-7) A5(-16,-7) A6(-14,-7) A7(-12,-7) A8(-10,-7) A9(-8,-7) A10(-6,-7) A11(-4,-7) A15(4,-7) A16(6,-7) A17(8,-7) A18(10,-7) A19(12,-7) A20(14,-7) A21(16,-7) A22(18,-7) A23(20,-7) A24(22,-7) A25(24,-7) B1(-24,-5) B2(-22,-5) B3(-20,-5) B4(-18,-5) B5(-16,-5) B6(-14,-5) B7(-12,-5) B8(-10,-5) B9(-8,-5) B10(-6,-5) B11(-4,-5) B15(4,-5) B16(6,-5) B17(8,-5) B18(10,-5) B19(12,-5) B20(14,-5) B21(16,-5) B22(18,-5) B23(20,-5) B24(22,-5) B25(24,-5) C1(-24,-3) C2(-22,-3) C3(-20,-3) C4(-18,-3) C5(-16,-3) C6(-14,-3) C7(-12,-3) C8(-10,-3) C9(-8,-3) C10(-6,-3) C11(-4,-3) C15(4,-3) C16(6,-3) C17(8,-3) C18(10,-3) C19(12,-3) C20(14,-3) C21(16,-3) C22(18,-3) C23(20,-3) C24(22,-3) C25(24,-3) D1(-24,-1) D2(-22,-1) D3(-20,-1) D4(-18,-1) D5(-16,-1) D6(-14,-1) D7(-12,-1) D8(-10,-1) D9(-8,-1) D10(-6,-1) D11(-4,-1) D15(4,-1) D16(6,-1) D17(8,-1) D18(10,-1) D19(12,-1) D20(14,-1) D21(16,-1) D22(18,-1) D23(20,-1) D24(22,-1) D25(24,-1) E1(-24,1) E2(-22,1) E3(-20,1) E4(-18,1) E5(-16,1) E6(-14,1) E7(-12,1) E8(-10,1) E9(-8,1) E10(-6,1) E11(-4,1) E15(4,1) E16(6,1) E17(8,1) E18(10,1) E19(12,1) E20(14,1) E21(16,1) E22(18,1) E23(20,1) E24(22,1) E25(24,1) F1(-24,3) F2(-22,3) F3(-20,3) F4(-18,3) F5(-16,3) F6(-14,3) F7(-12,3) F8(-10,3) F9(-8,3) F10(-6,3) F11(-4,3) F15(4,3) F16(6,3) F17(8,3) F18(10,3) F19(12,3) F20(14,3) F21(16,3) F22(18,3) F23(20,3) F24(22,3) F25(24,3) G1(-24,5) G2(-22,5) G3(-20,5) G4(-18,5) G5(-16,5) G6(-14,5) G7(-12,5) G8(-10,5) G9(-8,5) G10(-6,5) G11(-4,5) G15(4,5) G16(6,5) G17(8,5) G18(10,5) G19(12,5) G20(14,5) G21(16,5) G22(18,5) G23(20,5) G24(22,5) G25(24,5) H1(-24,7) H2(-22,7) H3(-20,7) H4(-18,7) H5(-16,7) H6(-14,7) H7(-12,7) H8(-10,7) H9(-8,7) H10(-6,7) H11(-4,7) H15(4,7) H16(6,7) H17(8,7) H18(10,7) H19(12,7) H20(14,7) H21(16,7) H22(18,7) H23(20,7) H24(22,7) H25(24,7)
Top Overlay:
  lines w0.2: -25,-8.7 25,-8.7 25,8.7 -25,8.7 -25,-8.7
  text "h" at -26.475,6.5 h1.5
  text "f" at -26.475,2.225 h1.5
  text "e" at -26.475,0.5 h1.5
  text "d" at -26.475,-1.5 h1.5
  text "c" at -26.475,-3.5 h1.5
  text "b" at -26.475,-5.5 h1.5
  text "a" at -26.475,-7.5 h1.5
  text "25" at 22.75,-10.675 h1.5
  text "15" at 2.875,-10.675 h1.5
  text "11" at -4.875,-10.675 h1.5
  text "1" at -24.25,-10.675 h1.5
  text "g" at -26.475,4.75 h1.5

## 646538-4 [mm] "Connector; CompactPCI; 176 Position; Vertical"
height 18.15
pads (177):
  round 3.4 hole 2.1: 177(0,-1)
  round 1.3 hole 0.7: A1(-24,-7) A2(-22,-7) A3(-20,-7) A4(-18,-7) A5(-16,-7) A6(-14,-7) A7(-12,-7) A8(-10,-7) A9(-8,-7) A10(-6,-7) A11(-4,-7) A15(4,-7) A16(6,-7) A17(8,-7) A18(10,-7) A19(12,-7) A20(14,-7) A21(16,-7) A22(18,-7) A23(20,-7) A24(22,-7) A25(24,-7) B1(-24,-5) B2(-22,-5) B3(-20,-5) B4(-18,-5) B5(-16,-5) B6(-14,-5) B7(-12,-5) B8(-10,-5) B9(-8,-5) B10(-6,-5) B11(-4,-5) B15(4,-5) B16(6,-5) B17(8,-5) B18(10,-5) B19(12,-5) B20(14,-5) B21(16,-5) B22(18,-5) B23(20,-5) B24(22,-5) B25(24,-5) C1(-24,-3) C2(-22,-3) C3(-20,-3) C4(-18,-3) C5(-16,-3) C6(-14,-3) C7(-12,-3) C8(-10,-3) C9(-8,-3) C10(-6,-3) C11(-4,-3) C15(4,-3) C16(6,-3) C17(8,-3) C18(10,-3) C19(12,-3) C20(14,-3) C21(16,-3) C22(18,-3) C23(20,-3) C24(22,-3) C25(24,-3) D1(-24,-1) D2(-22,-1) D3(-20,-1) D4(-18,-1) D5(-16,-1) D6(-14,-1) D7(-12,-1) D8(-10,-1) D9(-8,-1) D10(-6,-1) D11(-4,-1) D15(4,-1) D16(6,-1) D17(8,-1) D18(10,-1) D19(12,-1) D20(14,-1) D21(16,-1) D22(18,-1) D23(20,-1) D24(22,-1) D25(24,-1) E1(-24,1) E2(-22,1) E3(-20,1) E4(-18,1) E5(-16,1) E6(-14,1) E7(-12,1) E8(-10,1) E9(-8,1) E10(-6,1) E11(-4,1) E15(4,1) E16(6,1) E17(8,1) E18(10,1) E19(12,1) E20(14,1) E21(16,1) E22(18,1) E23(20,1) E24(22,1) E25(24,1) F1(-24,3) F2(-22,3) F3(-20,3) F4(-18,3) F5(-16,3) F6(-14,3) F7(-12,3) F8(-10,3) F9(-8,3) F10(-6,3) F11(-4,3) F15(4,3) F16(6,3) F17(8,3) F18(10,3) F19(12,3) F20(14,3) F21(16,3) F22(18,3) F23(20,3) F24(22,3) F25(24,3) G1(-24,5) G2(-22,5) G3(-20,5) G4(-18,5) G5(-16,5) G6(-14,5) G7(-12,5) G8(-10,5) G9(-8,5) G10(-6,5) G11(-4,5) G15(4,5) G16(6,5) G17(8,5) G18(10,5) G19(12,5) G20(14,5) G21(16,5) G22(18,5) G23(20,5) G24(22,5) G25(24,5) H1(-24,7) H2(-22,7) H3(-20,7) H4(-18,7) H5(-16,7) H6(-14,7) H7(-12,7) H8(-10,7) H9(-8,7) H10(-6,7) H11(-4,7) H15(4,7) H16(6,7) H17(8,7) H18(10,7) H19(12,7) H20(14,7) H21(16,7) H22(18,7) H23(20,7) H24(22,7) H25(24,7)
Top Overlay:
  lines w0.2: -25,-8.7 25,-8.7 25,8.7 -25,8.7 -25,-8.7
  text "h" at -26.475,6.5 h1.5
  text "f" at -26.475,2.225 h1.5
  text "e" at -26.475,0.5 h1.5
  text "d" at -26.475,-1.5 h1.5
  text "c" at -26.475,-3.5 h1.5
  text "b" at -26.475,-5.5 h1.5
  text "a" at -26.475,-7.5 h1.5
  text "25" at 22.75,-10.675 h1.5
  text "15" at 2.875,-10.675 h1.5
  text "11" at -4.875,-10.675 h1.5
  text "1" at -24.25,-10.675 h1.5
  text "g" at -26.475,4.75 h1.5

## 646538-9 [mm] "Connector; CompactPCI; 176 Position; Vertical"
height 18.15
pads (177):
  round 3.4 hole 2.1: 177(0,-1)
  round 1.3 hole 0.7: A1(-24,-7) A2(-22,-7) A3(-20,-7) A4(-18,-7) A5(-16,-7) A6(-14,-7) A7(-12,-7) A8(-10,-7) A9(-8,-7) A10(-6,-7) A11(-4,-7) A15(4,-7) A16(6,-7) A17(8,-7) A18(10,-7) A19(12,-7) A20(14,-7) A21(16,-7) A22(18,-7) A23(20,-7) A24(22,-7) A25(24,-7) B1(-24,-5) B2(-22,-5) B3(-20,-5) B4(-18,-5) B5(-16,-5) B6(-14,-5) B7(-12,-5) B8(-10,-5) B9(-8,-5) B10(-6,-5) B11(-4,-5) B15(4,-5) B16(6,-5) B17(8,-5) B18(10,-5) B19(12,-5) B20(14,-5) B21(16,-5) B22(18,-5) B23(20,-5) B24(22,-5) B25(24,-5) C1(-24,-3) C2(-22,-3) C3(-20,-3) C4(-18,-3) C5(-16,-3) C6(-14,-3) C7(-12,-3) C8(-10,-3) C9(-8,-3) C10(-6,-3) C11(-4,-3) C15(4,-3) C16(6,-3) C17(8,-3) C18(10,-3) C19(12,-3) C20(14,-3) C21(16,-3) C22(18,-3) C23(20,-3) C24(22,-3) C25(24,-3) D1(-24,-1) D2(-22,-1) D3(-20,-1) D4(-18,-1) D5(-16,-1) D6(-14,-1) D7(-12,-1) D8(-10,-1) D9(-8,-1) D10(-6,-1) D11(-4,-1) D15(4,-1) D16(6,-1) D17(8,-1) D18(10,-1) D19(12,-1) D20(14,-1) D21(16,-1) D22(18,-1) D23(20,-1) D24(22,-1) D25(24,-1) E1(-24,1) E2(-22,1) E3(-20,1) E4(-18,1) E5(-16,1) E6(-14,1) E7(-12,1) E8(-10,1) E9(-8,1) E10(-6,1) E11(-4,1) E15(4,1) E16(6,1) E17(8,1) E18(10,1) E19(12,1) E20(14,1) E21(16,1) E22(18,1) E23(20,1) E24(22,1) E25(24,1) F1(-24,3) F2(-22,3) F3(-20,3) F4(-18,3) F5(-16,3) F6(-14,3) F7(-12,3) F8(-10,3) F9(-8,3) F10(-6,3) F11(-4,3) F15(4,3) F16(6,3) F17(8,3) F18(10,3) F19(12,3) F20(14,3) F21(16,3) F22(18,3) F23(20,3) F24(22,3) F25(24,3) G1(-24,5) G2(-22,5) G3(-20,5) G4(-18,5) G5(-16,5) G6(-14,5) G7(-12,5) G8(-10,5) G9(-8,5) G10(-6,5) G11(-4,5) G15(4,5) G16(6,5) G17(8,5) G18(10,5) G19(12,5) G20(14,5) G21(16,5) G22(18,5) G23(20,5) G24(22,5) G25(24,5) H1(-24,7) H2(-22,7) H3(-20,7) H4(-18,7) H5(-16,7) H6(-14,7) H7(-12,7) H8(-10,7) H9(-8,7) H10(-6,7) H11(-4,7) H15(4,7) H16(6,7) H17(8,7) H18(10,7) H19(12,7) H20(14,7) H21(16,7) H22(18,7) H23(20,7) H24(22,7) H25(24,7)
Top Overlay:
  lines w0.2: -25,-8.7 25,-8.7 25,8.7 -25,8.7 -25,-8.7
  text "h" at -26.475,6.5 h1.5
  text "f" at -26.475,2.225 h1.5
  text "e" at -26.475,0.5 h1.5
  text "d" at -26.475,-1.5 h1.5
  text "c" at -26.475,-3.5 h1.5
  text "b" at -26.475,-5.5 h1.5
  text "a" at -26.475,-7.5 h1.5
  text "25" at 22.75,-10.675 h1.5
  text "15" at 2.875,-10.675 h1.5
  text "11" at -4.875,-10.675 h1.5
  text "1" at -24.25,-10.675 h1.5
  text "g" at -26.475,4.75 h1.5

## 646539-1 [mm] "Connector; CompactPCI; 200 Position; Vertical"
height 12
pads (200):
  round 1.3 hole 0.7: A1(-24,-7) A2(-22,-7) A3(-20,-7) A4(-18,-7) A5(-16,-7) A6(-14,-7) A7(-12,-7) A8(-10,-7) A9(-8,-7) A10(-6,-7) A11(-4,-7) A12(-2,-7) A13(0,-7) A14(2,-7) A15(4,-7) A16(6,-7) A17(8,-7) A18(10,-7) A19(12,-7) A20(14,-7) A21(16,-7) A22(18,-7) A23(20,-7) A24(22,-7) A25(24,-7) B1(-24,-5) B2(-22,-5) B3(-20,-5) B4(-18,-5) B5(-16,-5) B6(-14,-5) B7(-12,-5) B8(-10,-5) B9(-8,-5) B10(-6,-5) B11(-4,-5) B12(-2,-5) B13(0,-5) B14(2,-5) B15(4,-5) B16(6,-5) B17(8,-5) B18(10,-5) B19(12,-5) B20(14,-5) B21(16,-5) B22(18,-5) B23(20,-5) B24(22,-5) B25(24,-5) C1(-24,-3) C2(-22,-3) C3(-20,-3) C4(-18,-3) C5(-16,-3) C6(-14,-3) C7(-12,-3) C8(-10,-3) C9(-8,-3) C10(-6,-3) C11(-4,-3) C12(-2,-3) C13(0,-3) C14(2,-3) C15(4,-3) C16(6,-3) C17(8,-3) C18(10,-3) C19(12,-3) C20(14,-3) C21(16,-3) C22(18,-3) C23(20,-3) C24(22,-3) C25(24,-3) D1(-24,-1) D2(-22,-1) D3(-20,-1) D4(-18,-1) D5(-16,-1) D6(-14,-1) D7(-12,-1) D8(-10,-1) D9(-8,-1) D10(-6,-1) D11(-4,-1) D12(-2,-1) D13(0,-1) D14(2,-1) D15(4,-1) D16(6,-1) D17(8,-1) D18(10,-1) D19(12,-1) D20(14,-1) D21(16,-1) D22(18,-1) D23(20,-1) D24(22,-1) D25(24,-1) E1(-24,1) E2(-22,1) E3(-20,1) E4(-18,1) E5(-16,1) E6(-14,1) E7(-12,1) E8(-10,1) E9(-8,1) E10(-6,1) E11(-4,1) E12(-2,1) E13(0,1) E14(2,1) E15(4,1) E16(6,1) E17(8,1) E18(10,1) E19(12,1) E20(14,1) E21(16,1) E22(18,1) E23(20,1) E24(22,1) E25(24,1) F1(-24,3) F2(-22,3) F3(-20,3) F4(-18,3) F5(-16,3) F6(-14,3) F7(-12,3) F8(-10,3) F9(-8,3) F10(-6,3) F11(-4,3) F12(-2,3) F13(0,3) F14(2,3) F15(4,3) F16(6,3) F17(8,3) F18(10,3) F19(12,3) F20(14,3) F21(16,3) F22(18,3) F23(20,3) F24(22,3) F25(24,3) G1(-24,5) G2(-22,5) G3(-20,5) G4(-18,5) G5(-16,5) G6(-14,5) G7(-12,5) G8(-10,5) G9(-8,5) G10(-6,5) G11(-4,5) G12(-2,5) G13(0,5) G14(2,5) G15(4,5) G16(6,5) G17(8,5) G18(10,5) G19(12,5) G20(14,5) G21(16,5) G22(18,5) G23(20,5) G24(22,5) G25(24,5) H1(-24,7) H2(-22,7) H3(-20,7) H4(-18,7) H5(-16,7) H6(-14,7) H7(-12,7) H8(-10,7) H9(-8,7) H10(-6,7) H11(-4,7) H12(-2,7) H13(0,7) H14(2,7) H15(4,7) H16(6,7) H17(8,7) H18(10,7) H19(12,7) H20(14,7) H21(16,7) H22(18,7) H23(20,7) H24(22,7) H25(24,7)
Top Overlay:
  lines w0.2: -25,-8.7 -25,8.7 25,8.7 25,-8.7 -25,-8.7
  text "a" at -26.475,-7.5 h1.5
  text "h" at -26.475,6.5 h1.5
  text "1" at -24.25,-10.675 h1.5
  text "25" at 22.75,-10.675 h1.5
  text "b" at -26.475,-5.5 h1.5
  text "c" at -26.475,-3.5 h1.5
  text "d" at -26.475,-1.5 h1.5
  text "e" at -26.475,0.5 h1.5
  text "f" at -26.475,2.225 h1.5
  text "g" at -26.475,4.488 h1.5